# Altium schematic symbol library APX811-31UG-7.SchLib: 2 symbols
Pins are listed as number, name and electrical type; pins without a type are passive.

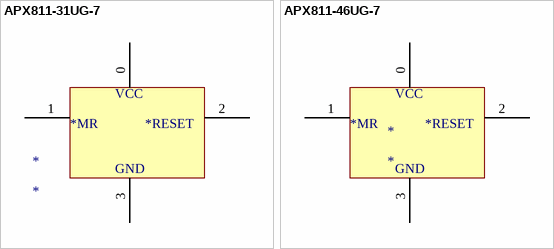
[diagram p0: symbols APX811-31UG-7 to APX811-46UG-7]

## APX811-31UG-7
designator *
footprint SOT143
pins: 0, 1, 2, 3
text: VCC; *MR; *RESET; GND

## APX811-46UG-7
designator *
footprint SOT143
pins: 0, 1, 2, 3
text: VCC; *MR; *RESET; GND